# EAGLE library part LM224N (library ST Microelctronics_By_element14_Batch_1)
Low power quad operational amplifiers
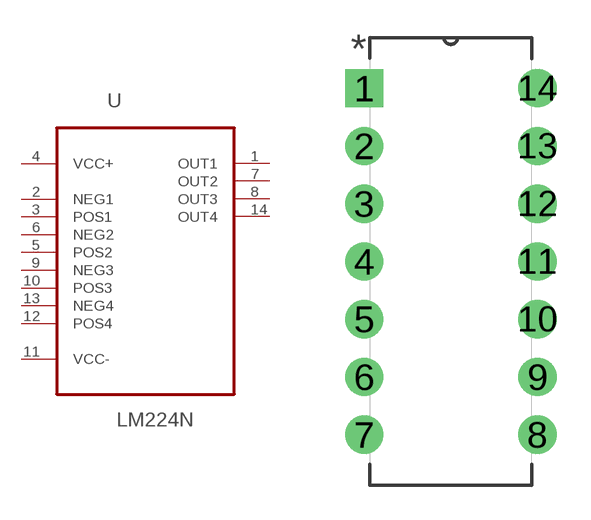
[diagram p93: symbol with the pads of DIP254P762X533-14; footprint DIP254P762X533-14]

Designator prefix U

## LM224N (MPN: LM224N; OC_FARNELL: 9755918; OC_NEWARK: 89K0656; PACKAGE: PDIP-14; SUPPLIER: STMICROELECTRONICS)  [DIP254P762X533-14]
1  OUT1  out
2  NEG1  in
3  POS1  in
4  VCC+  pwr
5  POS2  in
6  NEG2  in
7  OUT2  out
8  OUT3  out
9  NEG3  in
10  POS3  in
11  VCC-  pwr
12  POS4  in
13  NEG4  in
14  OUT4  out

## Footprint DIP254P762X533-14 (pad centres in mm)
drill 1.118 square: 1 -7.62,15.24
drill 1.118: 2 -7.62,12.7; 3 -7.62,10.16; 4 -7.62,7.62; 5 -7.62,5.08; 6 -7.62,2.54; 7 -7.62,0; 8 0,0; 9 0,2.54; 10 0,5.08; 11 0,7.62; 12 0,10.16; 13 0,12.7; 14 0,15.24